# EAGLE library part PROT_TPD4S012_U_6_DRY_TPD4S012 (library BeagleBone_Black_egl)
PROT_TPD4S012_U_6_DRY_TPD4S012
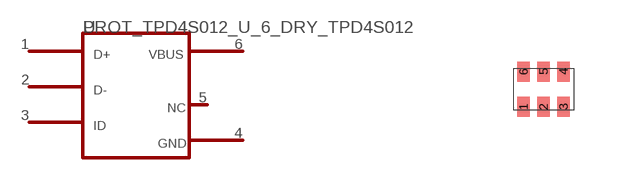
[diagram p16: symbol with the pads of U_6_DRY; footprint U_6_DRY]

Designator prefix -

## PROT_TPD4S012_U_6_DRY_TPD4S012  [U_6_DRY]
1  1
2  2
3  6
4  4
5  5
6  3

## Footprint U_6_DRY (pad centres in mm)
smd 0.305 x 0.508: 1 -0.5,-0.439; 2 0,-0.439; 3 0.5,-0.439; 4 0.5,0.439; 5 0,0.439; 6 -0.5,0.439